# EAGLE library part THL15WI (library parts)
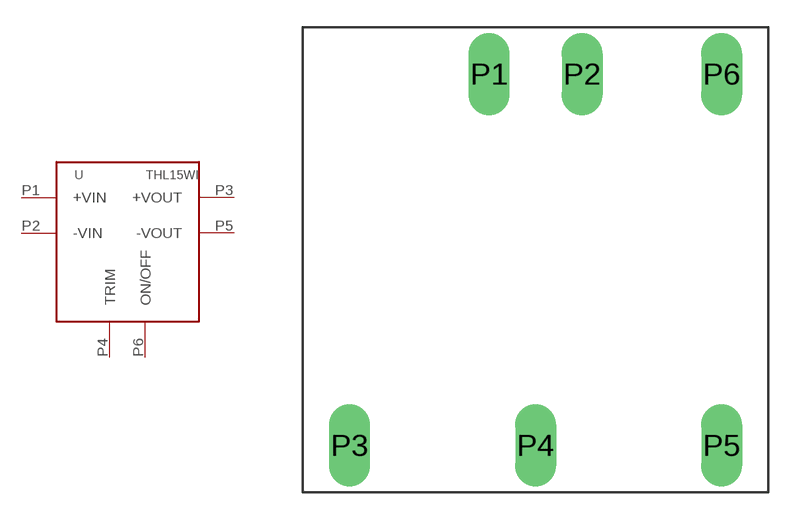
[diagram p10: symbol with the pads of THL15WI; footprint THL15WI]

Designator prefix -

## THL15WI  [THL15WI]
P1  +VIN
P2  -VIN
P3  +VOUT
P4  TRIM
P5  -VOUT
P6  ON/OFF

## Footprint THL15WI (pad centres in mm)
drill 1.5 long: P1 -2.54,11.42; P2 2.54,11.42; P3 -10.16,-8.88; P4 0,-8.88; P5 10.16,-8.88; P6 10.16,11.42